# Altium footprint library 6473418-1.PcbLib: 2 footprints
Each footprint in its own frame and in the unit in brackets; x right, y up, seen from the top. Pads: shape width x height; smd on the part's side, far side on the other; paste and mask are expansions set on the pad; w line width, h text height; cw(c..) or ccw(c..) is an arc to the next point about the centre after c.
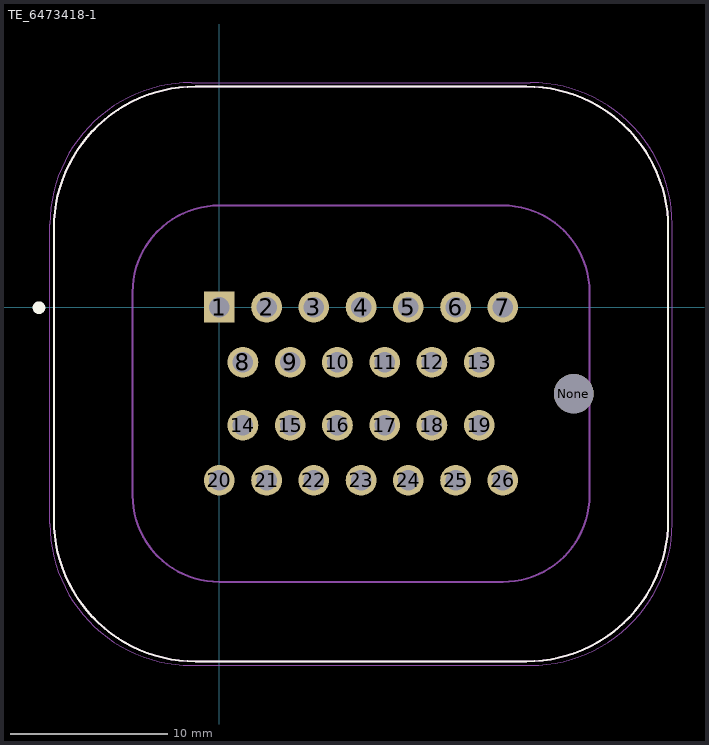
[diagram p0: the footprints below, top view; thin cyan lines are the x and y axes]

## PCBComponent_1 [mm]

## TE_6473418-1 [mm]
pads (27):
  rect 1.95x1.95 hole 1.3: 1(0,0)
  round 1.95 hole 1.3: 2(3,0) 3(6,0) 4(9,0) 5(12,0) 6(15,0) 7(18,0) 8(1.5,-3.5) 9(4.5,-3.5) 10(7.5,-3.5) 11(10.5,-3.5) 12(13.5,-3.5) 13(16.5,-3.5) 14(1.5,-7.5) 15(4.5,-7.5) 16(7.5,-7.5) 17(10.5,-7.5) 18(13.5,-7.5) 19(16.5,-7.5) 20(0,-11) 21(3,-11) 22(6,-11) 23(9,-11) 24(12,-11) 25(15,-11) 26(18,-11)
  round 2.5 hole 2.5 unplated: None(22.5,-5.5)
Top Overlay:
  circle w0.4: c-11.447,-0.039 r0.2
  lines w0.127: -10.5,-13.5 ccw(c-1.5,-13.5) -1.5,-22.5 19.5,-22.5 ccw(c19.5,-13.5) 28.5,-13.5 28.5,5 ccw(c19.5,5) 19.5,14 -1.5,14 ccw(c-1.5,5) -10.5,5 -10.5,-13.5
Mechanical 4:
  lines w0.127: -10.5,-13.5 ccw(c-1.5,-13.5) -1.5,-22.5 ; -10.5,-13.5 ccw(c-1.5,-13.5) -1.5,-22.5 ; -10.5,-13.5 -10.5,5 ; -10.5,-13.5 -10.5,5 ; -10.5,5 cw(c-1.5,5) -1.5,14 ; -10.5,5 cw(c-1.5,5) -1.5,14 ; -5.5,-11.95 ccw(c0,-11.95) 0,-17.45 ; -5.5,-11.95 ccw(c0,-11.95) 0,-17.45 ; -5.5,-11.95 -5.5,0.95 ; -5.5,-11.95 -5.5,0.95 ; -5.5,0.95 cw(c0,0.95) 0,6.45 ; -5.5,0.95 cw(c0,0.95) 0,6.45 ; -1.5,-22.5 19.5,-22.5 ; -1.5,-22.5 19.5,-22.5 ; -1.5,14 19.5,14 ; -1.5,14 19.5,14 ; 0,-17.45 18,-17.45 ; 0,-17.45 18,-17.45 ; 0,6.45 18,6.45 ; 0,6.45 18,6.45 ; 18,-17.45 ccw(c18,-11.95) 23.5,-11.95 ; 18,-17.45 ccw(c18,-11.95) 23.5,-11.95 ; 18,6.45 cw(c18,0.95) 23.5,0.95 ; 18,6.45 cw(c18,0.95) 23.5,0.95 ; 19.5,-22.5 ccw(c19.5,-13.5) 28.5,-13.5 ; 19.5,-22.5 ccw(c19.5,-13.5) 28.5,-13.5 ; 19.5,14 cw(c19.5,5) 28.5,5 ; 19.5,14 cw(c19.5,5) 28.5,5 ; 23.5,-11.95 23.5,0.95 ; 23.5,-11.95 23.5,0.95 ; 28.5,-13.5 28.5,5 ; 28.5,-13.5 28.5,5
Mechanical 16:
  lines w0.05: -10.75,-13.75 ccw(c-1.75,-13.75) -1.75,-22.75 19.75,-22.75 ccw(c19.75,-13.75) 28.75,-13.75 28.75,5.25 ccw(c19.75,5.25) 19.75,14.25 -1.75,14.25 ccw(c-1.75,5.25) -10.75,5.25 -10.75,-13.75
3D body "c-6473418-1-d-3d.stp": height 24.6, standoff -4.6, extent -10.546,-22.461 28.454,14.039